# Altium footprint library PCB_Lib.PcbLib: 286 footprints (part 1 of 18)
Each footprint in its own frame and in the unit in brackets; x right, y up, seen from the top. Pads: shape width x height; smd on the part's side, far side on the other; paste and mask are expansions set on the pad; w line width, h text height; cw(c..) or ccw(c..) is an arc to the next point about the centre after c.
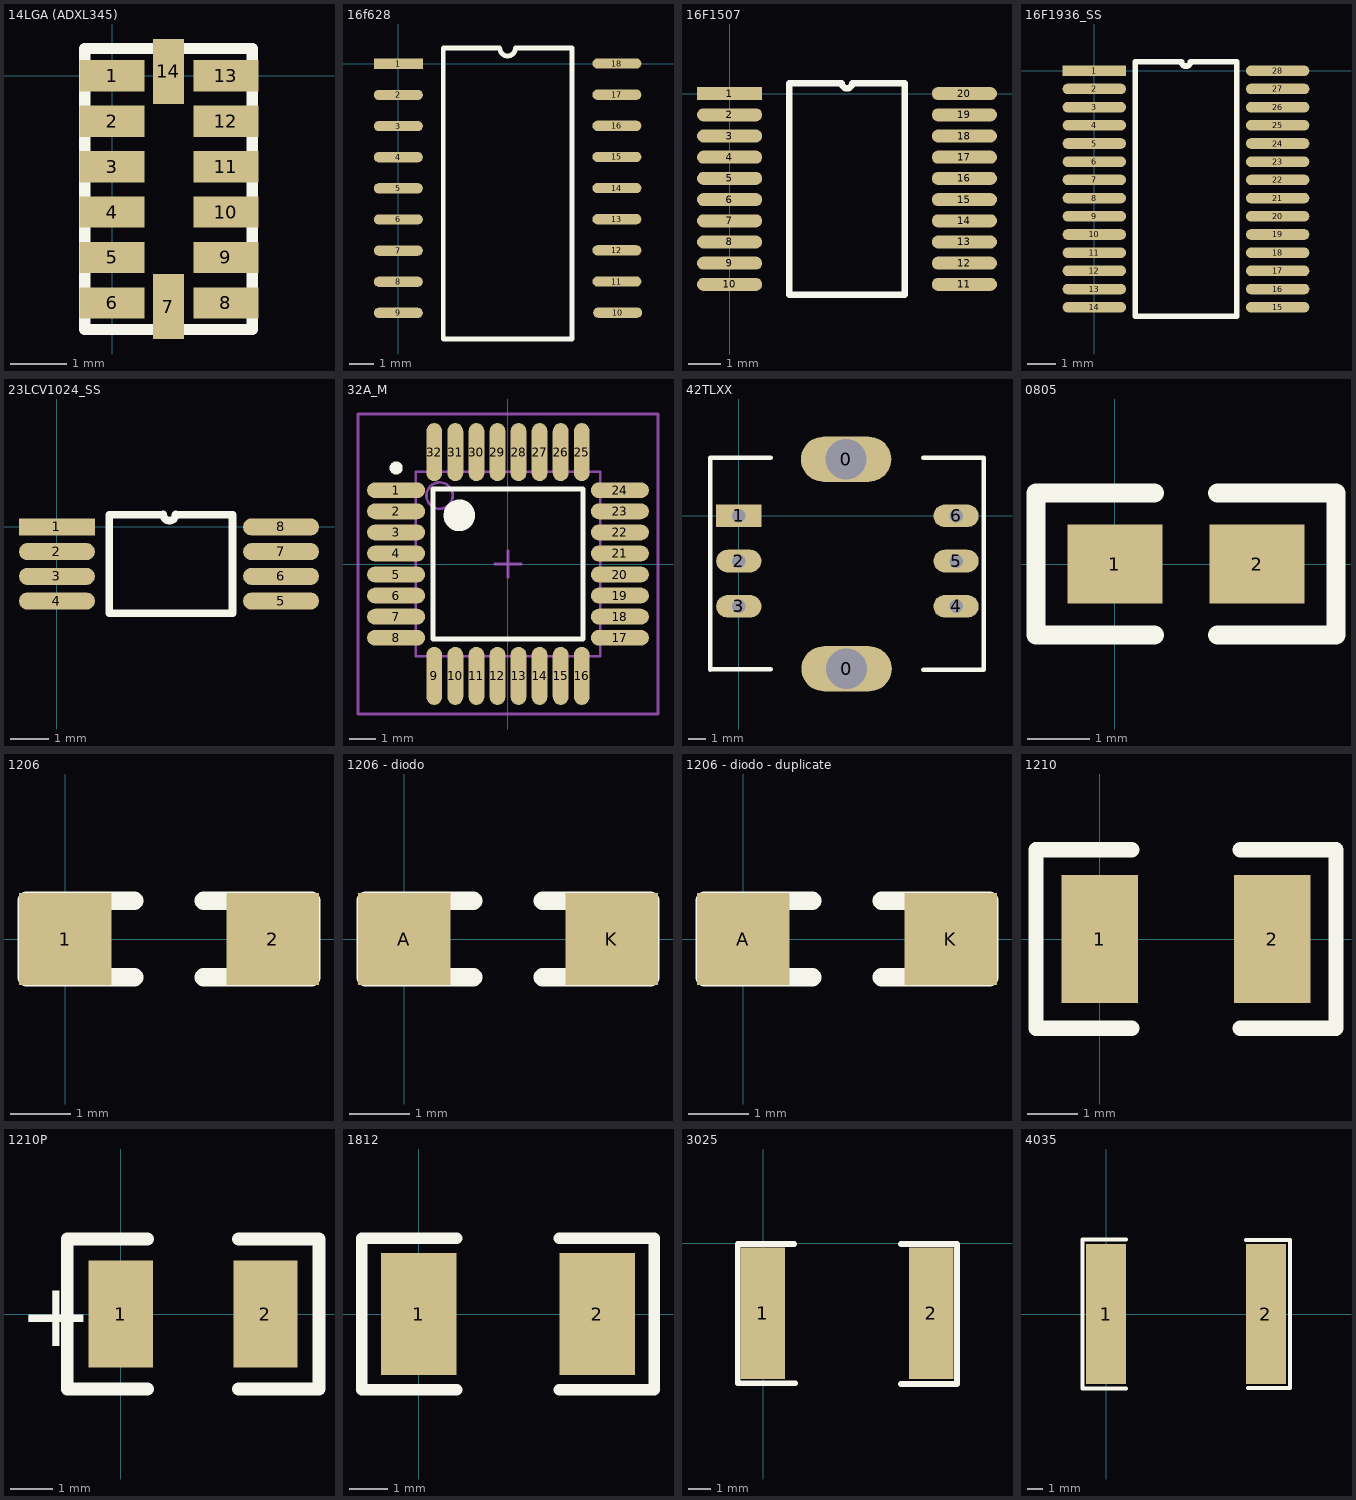
[diagram p0: the footprints below, top view; thin cyan lines are the x and y axes]

## 14LGA (ADXL345) [mm]
pads (14):
  rect 1.145x0.55 smd: 1(0,0) 2(0,-0.8) 3(0,-1.6) 4(0,-2.4) 5(0,-3.2) 6(0,-4) 8(2,-4) 9(2,-3.2) 10(2,-2.4) 11(2,-1.6) 12(2,-0.8) 13(2,0)
  rect 0.55x1.145 smd: 7(0.991,-4.064) 14(0.991,0.076)
Top Overlay:
  lines w0.2: -0.483,-4.47 -0.483,0.483 2.464,0.483 2.464,-4.47 -0.483,-4.47

## 16f628 [mm]
pads (18):
  rect 2x0.42 smd: 1(0,0)
  oval 2x0.42 smd: 2(0,-1.27) 3(0,-2.54) 4(0,-3.81) 5(0,-5.08) 6(0,-6.35) 7(0,-7.62) 8(0,-8.89) 9(0,-10.16) 10(8.95,-10.15) 11(8.915,-8.88) 12(8.915,-7.61) 13(8.915,-6.34) 14(8.915,-5.07) 15(8.915,-3.8) 16(8.915,-2.53) 17(8.915,-1.26) 18(8.915,0.01)
Top Overlay:
  lines w0.2: 1.835,-11.225 1.835,0.635 4.14,0.635 ccw(c4.457,0.635) 4.775,0.635 7.08,0.635 7.08,-11.225 1.835,-11.225

## 16F1507 [mm]
pads (20):
  rect 2x0.4 smd: 1(0,0)
  oval 2x0.4 smd: 2(0,-0.65) 3(0,-1.3) 4(0,-1.95) 5(0,-2.6) 6(0,-3.25) 7(0,-3.9) 8(0,-4.55) 9(0,-5.2) 10(0,-5.85) 11(7.2,-5.85) 12(7.2,-5.2) 13(7.2,-4.55) 14(7.2,-3.9) 15(7.2,-3.25) 16(7.2,-2.6) 17(7.2,-1.95) 18(7.2,-1.3) 19(7.2,-0.65) 20(7.2,0)
Top Overlay:
  lines w0.2: 1.835,-6.175 1.835,0.325 3.438,0.325 ccw(c3.6,0.325) 3.762,0.325 5.365,0.325 5.365,-6.175 1.835,-6.175

## 16F1936_SS [mm]
pads (28):
  rect 2.266x0.38 smd: 1(0,0)
  oval 2.266x0.38 smd: 2(0,-0.65) 3(0,-1.3) 4(0,-1.95) 5(0,-2.6) 6(0,-3.25) 7(0,-3.9) 8(0,-4.55) 9(0,-5.2) 10(0,-5.85) 11(0,-6.5) 12(0,-7.15) 13(0,-7.8) 14(0,-8.45) 15(6.55,-8.45) 16(6.55,-7.8) 17(6.55,-7.15) 18(6.55,-6.5) 19(6.55,-5.85) 20(6.55,-5.2) 21(6.55,-4.55) 22(6.55,-3.9) 23(6.55,-3.25) 24(6.55,-2.6) 25(6.55,-1.95) 26(6.55,-1.3) 27(6.55,-0.65) 28(6.55,0)
Top Overlay:
  lines w0.2: 1.46,-8.775 5.09,-8.775 5.09,0.325 3.437,0.325 cw(c3.275,0.325) 3.113,0.325 1.46,0.325 1.46,-8.775

## 23LCV1024_SS [mm]
pads (8):
  rect 2x0.45 smd: 1(0,0)
  oval 2x0.45 smd: 2(0,-0.65) 3(0,-1.3) 4(0,-1.95) 5(5.9,-1.95) 6(5.9,-1.3) 7(5.9,-0.65) 8(5.9,0)
Top Overlay:
  lines w0.2: 2.788,0.325 1.372,0.325 1.372,-2.275 4.623,-2.275 4.623,0.325 3.112,0.325 ; 2.799,0.33 ccw(c2.962,0.33) 3.124,0.33

## 32A_M [mm] "Thin QFP, 32-Leads, Body 7x7mm, Pitch 0.8mm, IPC Low Density"
height 1.2
pads (32):
  oval 2.204x0.6 smd: 1(-4.25,2.8) 2(-4.25,2) 3(-4.25,1.2) 4(-4.25,0.4) 5(-4.25,-0.4) 6(-4.25,-1.2) 7(-4.25,-2) 8(-4.25,-2.8) 17(4.25,-2.8) 18(4.25,-2) 19(4.25,-1.2) 20(4.25,-0.4) 21(4.25,0.4) 22(4.25,1.2) 23(4.25,2) 24(4.25,2.8)
  oval 0.6x2.204 smd: 9(-2.8,-4.25) 10(-2,-4.25) 11(-1.2,-4.25) 12(-0.4,-4.25) 13(0.4,-4.25) 14(1.2,-4.25) 15(2,-4.25) 16(2.8,-4.25) 25(2.8,4.25) 26(2,4.25) 27(1.2,4.25) 28(0.4,4.25) 29(-0.4,4.25) 30(-1.2,4.25) 31(-2,4.25) 32(-2.8,4.25)
Top Overlay:
  circle w0.6: c-1.85,1.85 r0.3
  circle w0.25: c-4.25,3.65 r0.125
  lines w0.2: -2.85,-2.85 2.85,-2.85 2.85,2.85 -2.85,2.85 -2.85,-2.85
Mechanical 13:
  circle w0.1: c-2.6,2.6 r0.5
  lines w0.1: -3.5,-3.5 3.5,-3.5 3.5,3.5 -3.5,3.5 -3.5,-3.5
Mechanical 15:
  lines w0.1: -0.5,0 0.5,0 ; 0,-0.5 0,0.5 ; -5.7,-5.7 5.7,-5.7 5.7,5.7 -5.7,5.7 -5.7,-5.7
3D body: height 1.2, standoff 0, extent -3.5,-3.5 3.5,3.5

## 42TLXX [mil]
pads (8):
  oval 200x100 hole 90: 0(237,125) 0(238,-338)
  rect 100x50 hole 30: 1(0,0)
  oval 100x50 hole 30: 2(0,-100) 3(0,-200) 4(480,-200) 5(480,-100) 6(480,0)
Top Overlay:
  lines w10: -63,-340 -63,128 70,128 ; -63,-339 70,-339 ; 408,-340 541,-340 541,128 408,128

## 0805 [mil]
pads (2):
  rect 60x50 smd: 1(0,0) 2(90,0)
Top Overlay:
  lines w12: 25,-45 -50,-45 -50,45 25,45 ; 65,-45 140,-45 140,45 65,45

## 1206 [mil] "SMD R&C"
pads (2):
  rect 60x60 smd: 1(0,0) 2(135,0)
Top Overlay:
  lines w12: 45,-25 10,-25 -25,-25 -25,25 -15,25 45,25 ; 90,-25 160,-25 160,25 90,25
3D body "R_1206.STEP": height 0, standoff -20.08, extent 1.97,-31.5 127.95,31.5

## 1206 - diodo [mil] "SMD R&C"
pads (2):
  rect 60x60 smd: A(0,0) K(135,0)
Top Overlay:
  lines w12: 45,-25 10,-25 -25,-25 -25,25 -15,25 45,25 ; 90,-25 160,-25 160,25 90,25

## 1206 - diodo - duplicate [mil] "SMD R&C"
pads (2):
  rect 60x60 smd: A(0,0) K(135,0)
Top Overlay:
  lines w12: 45,-25 10,-25 -25,-25 -25,25 -15,25 45,25 ; 90,-25 160,-25 160,25 90,25

## 1210 [mil]
pads (2):
  rect 60x100 smd: 1(0,0) 2(135,0)
Top Overlay:
  lines w12: 25,-70 -50,-70 -50,70 25,70 ; 110,-70 185,-70 185,70 110,70

## 1210P [mil]
pads (2):
  rect 60x100 smd: 1(0,0) 2(135,0)
Top Overlay:
  lines w12: 25,-70 -50,-70 -50,70 25,70 ; 110,-70 185,-70 185,70 110,70
  text "+" at -95,-30 h60

## 1812 [mm]
pads (2):
  rect 2x3.2 smd: 1(0,0) 2(4.7,0)
Top Overlay:
  lines w0.305: 1,-2 -1.5,-2 -1.5,2 1,2 ; 3.7,-2 6.2,-2 6.2,2 3.7,2

## 3025 [mil]
pads (2):
  rect 80x235 smd: 1(-1,-125) 2(300,-125)
Top Overlay:
  lines w10: 55,-1 -46,-1 -46,-250 57,-250 ; 246,-251 346,-251 346,-1 246,-1

## 4035 [mil]
pads (2):
  rect 100x350 smd: 1(0,0) 2(400,0)
Top Overlay:
  lines w10: 50,-186 -59,-186 -59,186 50,186 ; 350,185 460,185 460,-185 355,-185